# EAGLE library part XC9572*PC44 (library apbteam_xilinx-cpld)
XC9572 In-System Programmable CPLD 72 macrocells
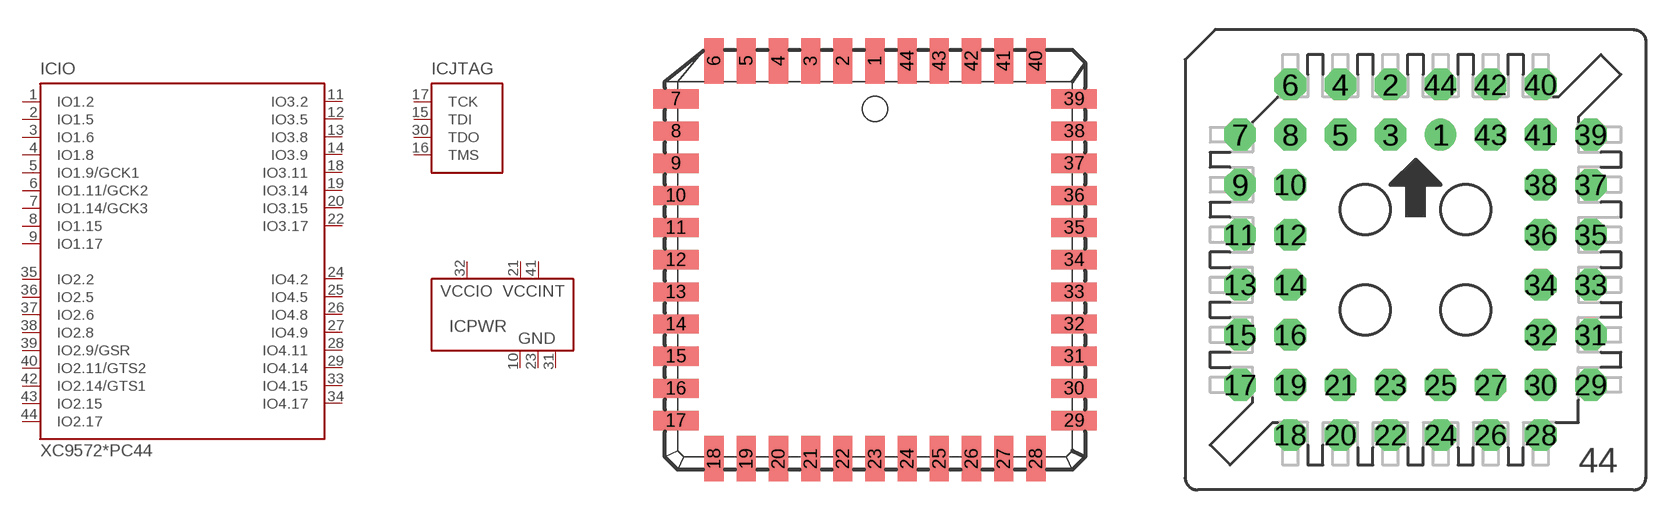
[diagram p0: symbol with the pads of PLCC44N; footprints PLCC44N, PLCC44S]

Designator prefix IC; gates IO=9572-PC44-IO JTAG=JTAG PWR=44-PWR

## XC9572PC44-N  [PLCC44N]
1  IO:IO1.2
2  IO:IO1.5
3  IO:IO1.6
4  IO:IO1.8
5  IO:IO1.9/GCK1
6  IO:IO1.11/GCK2
7  IO:IO1.14/GCK3
8  IO:IO1.15
9  IO:IO1.17
10  PWR:GND  pwr
11  IO:IO3.2
12  IO:IO3.5
13  IO:IO3.8
14  IO:IO3.9
15  JTAG:TDI  in
16  JTAG:TMS  in
17  JTAG:TCK  in
18  IO:IO3.11
19  IO:IO3.14
20  IO:IO3.15
21  PWR:VCCINT  pwr
22  IO:IO3.17
23  PWR:GND  pwr
24  IO:IO4.2
25  IO:IO4.5
26  IO:IO4.8
27  IO:IO4.9
28  IO:IO4.11
29  IO:IO4.14
30  JTAG:TDO  out
31  PWR:GND  pwr
32  PWR:VCCIO  pwr
33  IO:IO4.15
34  IO:IO4.17
35  IO:IO2.2
36  IO:IO2.5
37  IO:IO2.6
38  IO:IO2.8
39  IO:IO2.9/GSR
40  IO:IO2.11/GTS2
41  PWR:VCCINT  pwr
42  IO:IO2.14/GTS1
43  IO:IO2.15
44  IO:IO2.17

## XC9572PC44-S  [PLCC44S]
Pads as for PLCC44N

## XC9572PC44  [PLCC44]
Pads as for PLCC44N

## Footprint PLCC44N (pad centres in mm)
Plastic J-Leaded Chip Carrier narrow footprint
smd 0.76 x 1.8: 1 0,7.86; 2 -1.27,7.86; 3 -2.54,7.86; 4 -3.81,7.86; 5 -5.08,7.86; 6 -6.35,7.86; 18 -6.35,-7.86; 19 -5.08,-7.86; 20 -3.81,-7.86; 21 -2.54,-7.86; 22 -1.27,-7.86; 23 0,-7.86; 24 1.27,-7.86; 25 2.54,-7.86; 26 3.81,-7.86; 27 5.08,-7.86; 28 6.35,-7.86; 40 6.35,7.86; 41 5.08,7.86; 42 3.81,7.86; 43 2.54,7.86; 44 1.27,7.86
smd 1.8 x 0.76: 7 -7.86,6.35; 8 -7.86,5.08; 9 -7.86,3.81; 10 -7.86,2.54; 11 -7.86,1.27; 12 -7.86,0; 13 -7.86,-1.27; 14 -7.86,-2.54; 15 -7.86,-3.81; 16 -7.86,-5.08; 17 -7.86,-6.35; 29 7.86,-6.35; 30 7.86,-5.08; 31 7.86,-3.81; 32 7.86,-2.54; 33 7.86,-1.27; 34 7.86,0; 35 7.86,1.27; 36 7.86,2.54; 37 7.86,3.81; 38 7.86,5.08; 39 7.86,6.35

## Footprint PLCC44S (pad centres in mm)
Throughhole Plastic J-Leaded Chip Carrier Socket
drill 0.813 pad 1.6 round: 1 1.27,6.35
drill 0.813 pad 1.6 octagon: 2 -1.27,8.89; 3 -1.27,6.35; 4 -3.81,8.89; 5 -3.81,6.35; 6 -6.35,8.89; 7 -8.89,6.35; 8 -6.35,6.35; 9 -8.89,3.81; 10 -6.35,3.81; 11 -8.89,1.27; 12 -6.35,1.27; 13 -8.89,-1.27; 14 -6.35,-1.27; 15 -8.89,-3.81; 16 -6.35,-3.81; 17 -8.89,-6.35; 18 -6.35,-8.89; 19 -6.35,-6.35; 20 -3.81,-8.89; 21 -3.81,-6.35; 22 -1.27,-8.89; 23 -1.27,-6.35; 24 1.27,-8.89; 25 1.27,-6.35; 26 3.81,-8.89; 27 3.81,-6.35; 28 6.35,-8.89; 29 8.89,-6.35; 30 6.35,-6.35; 31 8.89,-3.81; 32 6.35,-3.81; 33 8.89,-1.27; 34 6.35,-1.27; 35 8.89,1.27; 36 6.35,1.27; 37 8.89,3.81; 38 6.35,3.81; 39 8.89,6.35; 40 6.35,8.89; 41 6.35,6.35; 42 3.81,8.89; 43 3.81,6.35; 44 1.27,8.89

## Footprint PLCC44 (pad centres in mm)
Plastic J-Lead Chip Carrier
smd 0.6 x 2.2: 1 0,8.1; 2 -1.27,8.1; 3 -2.54,8.1; 4 -3.81,8.1; 5 -5.08,8.1; 6 -6.35,8.1; 18 -6.35,-8.1; 19 -5.08,-8.1; 20 -3.81,-8.1; 21 -2.54,-8.1; 22 -1.27,-8.1; 23 0,-8.1; 24 1.27,-8.1; 25 2.54,-8.1; 26 3.81,-8.1; 27 5.08,-8.1; 28 6.35,-8.1; 40 6.35,8.1; 41 5.08,8.1; 42 3.81,8.1; 43 2.54,8.1; 44 1.27,8.1
smd 2.2 x 0.6: 7 -8.1,6.35; 8 -8.1,5.08; 9 -8.1,3.81; 10 -8.1,2.54; 11 -8.1,1.27; 12 -8.1,0; 13 -8.1,-1.27; 14 -8.1,-2.54; 15 -8.1,-3.81; 16 -8.1,-5.08; 17 -8.1,-6.35; 29 8.1,-6.35; 30 8.1,-5.08; 31 8.1,-3.81; 32 8.1,-2.54; 33 8.1,-1.27; 34 8.1,0; 35 8.1,1.27; 36 8.1,2.54; 37 8.1,3.81; 38 8.1,5.08; 39 8.1,6.35